# Altium footprint library PcbLibraryModelBoard.PcbLib: 17 footprints (part 1 of 2)
Each footprint in its own frame and in the unit in brackets; x right, y up, seen from the top. Pads: shape width x height; smd on the part's side, far side on the other; paste and mask are expansions set on the pad; w line width, h text height; cw(c..) or ccw(c..) is an arc to the next point about the centre after c.
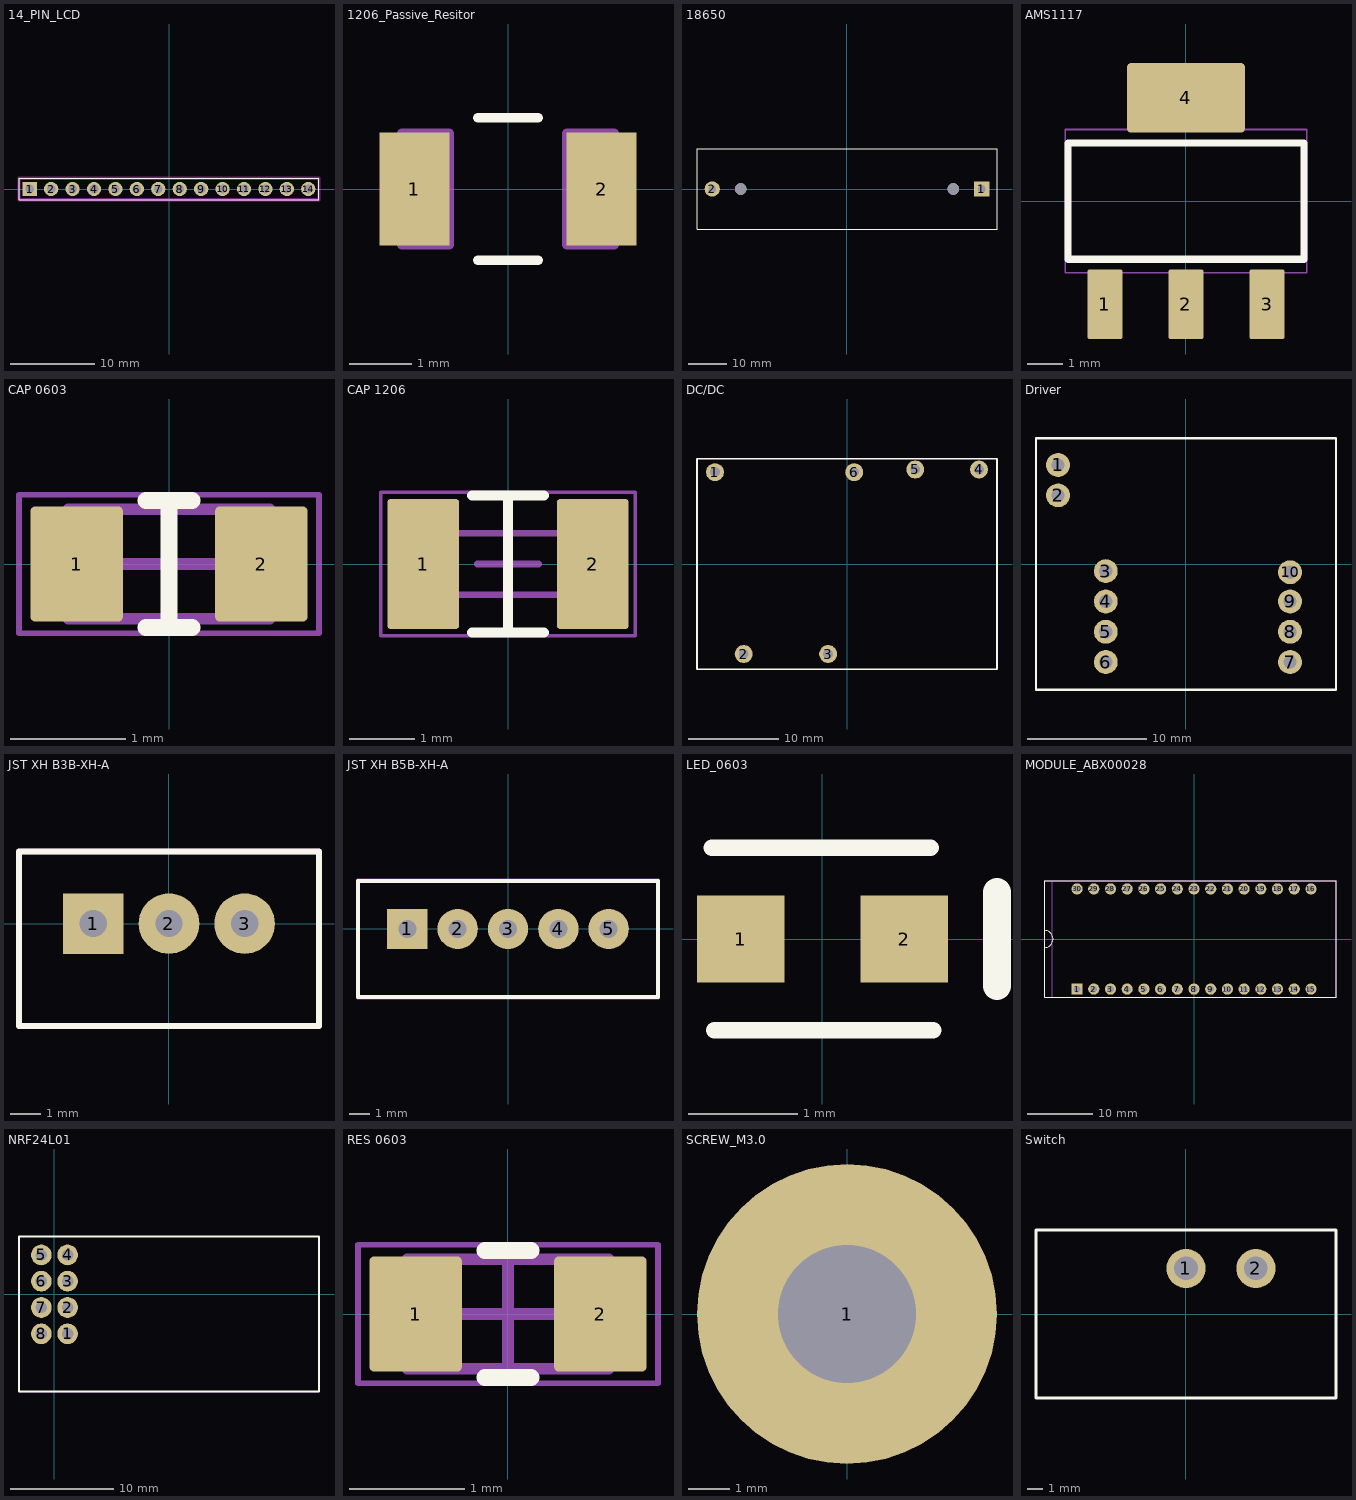
[diagram p0: the footprints below, top view; thin cyan lines are the x and y axes]

## 14_PIN_LCD [mm]
pads (14):
  rect 1.7x1.7 / inner round 1.7 / far side rect 1.7x1.7 hole 1.016: 1(-16.51,0)
  round 1.7 hole 1.016: 2(-13.97,0) 3(-11.43,0) 4(-8.89,0) 5(-6.35,0) 6(-3.81,0) 7(-1.27,0) 8(1.27,0) 9(3.81,0) 10(6.35,0) 11(8.89,0) 12(11.43,0) 13(13.97,0) 14(16.51,0)
Top Overlay:
  lines w0.127: -17.78,-1.27 17.78,-1.27 17.78,1.27 -17.78,1.27 -17.78,-1.27
Keep-Out Layer:
  lines w0.4: -17.78,-1.27 17.78,-1.27 17.78,1.27 -17.78,1.27 -17.78,-1.27
Mechanical 13:
  lines w0.127: -17.78,-1.27 17.78,-1.27 17.78,1.27 -17.78,1.27 -17.78,-1.27
Mechanical 15:
  lines w0.05: -17.78,-1.27 -17.78,1.27 17.78,1.27 17.78,-1.27 -17.78,-1.27

## 1206_Passive_Resitor [mil]
pads (2):
  rect 44x71 smd: 1(-59,0) 2(59,0)
Top Overlay:
  lines w6: -19,-44.88 19,-44.88 ; -19,44.88 19,44.88
Mechanical 4:
  lines w6: -67,-35 -67,35 ; -67,-35 -37,-35 ; -67,-35 -67,35 ; -67,-35 -37,-35 ; -67,35 -37,35 ; -67,35 -37,35 ; -37,-35 -37,35 ; -37,-35 -37,35 ; 37,-35 67,-35 ; 37,-35 37,35 ; 37,-35 67,-35 ; 37,-35 37,35 ; 37,35 67,35 ; 37,35 67,35 ; 67,-35 67,35 ; 67,-35 67,35
3D body "Res_1206.STEP": height 25.59, standoff 0, extent -61.02,-30.51 61.03,30.52

## 18650 [mm]
pads (4):
  rect 4x4 hole 2: 1(35,0)
  round 4 hole 2: 2(-35,0)
  round 3 hole 3 unplated: ""(-27.6,0) ""(27.6,0)
Top Overlay:
  lines w0.2: -38.95,-10.4 38.95,-10.4 38.95,10.4 -38.95,10.4 -38.95,-10.4

## AMS1117 [mm]
pads (4):
  rrect10% 0.99x1.97 smd: 1(-2.3,-2.93) 2(0,-2.93) 3(2.3,-2.93)
  rrect10% 3.34x1.97 smd: 4(0,2.93)
Top Overlay:
  lines w0.2: -3.35,-1.651 -3.35,1.651 3.35,1.651 3.35,-1.651 -3.35,-1.651
Mechanical 15:
  lines w0.05: -3.429,-2.032 -3.429,2.032 3.429,2.032 3.429,-2.032 -3.429,-2.032
Mechanical 20:
  lines w0.05: -3.429,-2.032 -3.429,2.032 3.429,2.032 3.429,-2.032 -3.429,-2.032

## CAP 0603 [mm] "Chip Resistor, 2-Leads, Body 1.60x0.80mm"
height 0.45
pads (2):
  rrect10% 0.8x1 smd: 1(-0.8,0) 2(0.8,0)
Top Overlay:
  lines w0.15: -0.2,-0.55 0.2,-0.55 ; -0.2,0.55 0.2,0.55 ; 0,-0.55 0,0.55
Mechanical 13:
  lines w0.1: -0.875,-0.475 0.875,-0.475 0.875,0.475 -0.875,0.475 -0.875,-0.475
Mechanical 15:
  lines w0.05: -1.3,-0.6 1.3,-0.6 1.3,0.6 -1.3,0.6 -1.3,-0.6
  lines w0.1: -0.475,0 0.475,0 ; 0,-0.475 0,0.475
3D body "0603 resistor.STEP": height 0.45, standoff 0, extent -0.8,-0.4 0.8,0.4

## CAP 1206 [mm] "Chip Resistor, 2-Leads, Body 1.60x0.80mm"
height 0.45
pads (2):
  rrect10% 1.1x2 smd: 1(-1.3,0) 2(1.3,0)
Top Overlay:
  lines w0.15: -0.55,-1.05 0.55,-1.05 ; -0.55,1.05 0.55,1.05 ; 0,-1.05 0,1
Mechanical 13:
  lines w0.1: -0.875,-0.475 -0.875,0.475 0.875,0.475 0.875,-0.475 -0.875,-0.475
Mechanical 15:
  lines w0.05: -1.95,-1.1 -1.95,1.1 1.95,1.1 1.95,-1.1 -1.95,-1.1
  lines w0.1: -0.475,0 0.475,0 ; 0,-0.475 0,0.475
Mechanical 20:
  lines w0.05: -1.95,-1.1 1.95,-1.1 1.95,1.1 -1.95,1.1 -1.95,-1.1
3D body "0603 resistor.STEP": height 0.45, standoff 0, extent -0.8,-0.4 0.8,0.4

## DC/DC [mm]
pads (6):
  round 2 hole 1.1: 1(-14.7,10.225) 2(-11.5,-10.025) 3(-2.1,-10.025) 4(14.7,10.525) 5(7.6,10.525) 6(0.8,10.225)
Top Overlay:
  lines w0.2: -16.7,-11.725 16.7,-11.725 16.7,11.725 -16.7,11.725 -16.7,-11.725

## Driver [mm]
pads (10):
  round 2 hole 1.1: 1(-10.725,8.3) 2(-10.725,5.76) 3(-6.725,-0.6) 4(-6.725,-3.14) 5(-6.725,-5.68) 6(-6.725,-8.22) 7(8.725,-8.22) 8(8.725,-5.68) 9(8.725,-3.14) 10(8.725,-0.69)
Top Overlay:
  lines w0.2: -12.575,-10.55 -12.575,10.55 12.575,10.55 12.575,-10.55 -12.575,-10.55
Mechanical 15:
  lines w0.05: -12.575,-10.541 -12.575,10.55 ; -12.575,-10.541 12.573,-10.541 ; -12.575,-10.541 -12.575,10.55 ; -12.575,-10.541 12.573,-10.541 ; -12.575,10.55 12.573,10.55 ; -12.575,10.55 12.573,10.55 ; 12.573,-10.541 12.573,10.55 ; 12.573,-10.541 12.573,10.55
Mechanical 20:
  lines w0.05: -12.575,-10.541 -12.575,10.55 12.573,10.55 12.573,-10.541 -12.575,-10.541

## JST XH B3B-XH-A [mm]
height 7
pads (3):
  rect 2x2 hole 0.9: 1(-2.5,0)
  round 2 hole 0.9: 2(0,0) 3(2.5,0)
Top Overlay:
  lines w0.2: -4.95,-3.375 -4.95,2.375 4.95,2.375 4.95,-3.375 -4.95,-3.375
Mechanical 1:
  lines w0.2: -4.95,-3.375 4.95,-3.375 4.95,2.375 -4.95,2.375 -4.95,-3.375
Mechanical 15:
  lines w0.05: -4.953,-3.429 -4.953,2.413 4.953,2.413 4.953,-3.429 -4.953,-3.429
  lines w0.2: -0.5,0 0.5,0 ; 0,-0.5 0,0.5
Mechanical 20:
  lines w0.05: -4.953,-3.429 4.953,-3.429 4.953,2.413 -4.953,2.413 -4.953,-3.429
3D body "JST B3B-XH-A.STEP": height 7, standoff -3.4, extent -4.95,-3.375 4.95,2.375

## JST XH B5B-XH-A [mm]
height 7
pads (5):
  rect 2x2 hole 0.9: 1(-5,0)
  round 2 hole 0.9: 2(-2.5,0) 3(0,0) 4(2.5,0) 5(5,0)
Top Overlay:
  lines w0.2: -7.45,-3.375 7.45,-3.375 7.45,2.375 -7.45,2.375 -7.45,-3.375
Mechanical 1:
  lines w0.2: -7.45,-3.375 -7.45,2.375 7.45,2.375 7.45,-3.375 -7.45,-3.375
Mechanical 15:
  lines w0.2: -0.5,0 0.5,0 ; 0,-0.5 0,0.5 ; -7.45,-3.4 7.45,-3.4 7.45,2.4 -7.45,2.4 -7.45,-3.4
3D body "JST B5B-XH-A.STEP": height 7, standoff -3.4, extent -7.45,-3.375 7.45,2.375

## LED_0603 [mm]
pads (2):
  rect 0.8x0.8 smd: 1(-0.75,0) 2(0.75,0)
Top Overlay:
  lines w0.152: -1.016,0.838 0.991,0.838 ; -0.991,-0.838 1.016,-0.838
  lines w0.254: 1.6,-0.432 1.6,0.432
3D body "LED_0603.STEP": height 0.55, standoff 0, extent -0.837,-0.406 0.763,0.394

## MODULE_ABX00028 [mm]
pads (30):
  rect 1.7x1.7 / inner round 1.7 / far side rect 1.7x1.7 hole 1.016: 1(-17.78,-7.62)
  round 1.7 hole 1.016: 2(-15.24,-7.62) 3(-12.7,-7.62) 4(-10.16,-7.62) 5(-7.62,-7.62) 6(-5.08,-7.62) 7(-2.54,-7.62) 8(0,-7.62) 9(2.54,-7.62) 10(5.08,-7.62) 11(7.62,-7.62) 12(10.16,-7.62) 13(12.7,-7.62) 14(15.24,-7.62) 15(17.78,-7.62) 16(17.78,7.62) 17(15.24,7.62) 18(12.7,7.62) 19(10.16,7.62) 20(7.62,7.62) 21(5.08,7.62) 22(2.54,7.62) 23(0,7.62) 24(-2.54,7.62) 25(-5.08,7.62) 26(-7.62,7.62) 27(-10.16,7.62) 28(-12.7,7.62) 29(-15.24,7.62) 30(-17.78,7.62)
Top Overlay:
  lines w0.127: -22.733,-1.295 ccw(c-22.733,0) -22.733,1.295 ; -22.733,-8.89 21.59,-8.89 21.59,8.89 -22.733,8.89 -22.733,-8.89
Mechanical 13:
  lines w0.127: -21.59,-8.89 21.59,-8.89 21.59,8.89 -21.59,8.89 -21.59,-8.89
Mechanical 15:
  lines w0.05: -22.733,-8.89 -22.733,8.89 21.59,8.89 21.59,-8.89 -22.733,-8.89
3D body "step_temp.STEP": height 6, standoff -6, extent -22.74,-8.89 21.59,8.89

## NRF24L01 [mm]
pads (8):
  round 2 hole 1.1: 1(1.27,-3.81) 2(1.27,-1.27) 3(1.27,1.27) 4(1.27,3.81) 5(-1.27,3.81) 6(-1.27,1.27) 7(-1.27,-1.27) 8(-1.27,-3.81)
Top Overlay:
  lines w0.2: -3.429,-9.398 -3.429,5.602 25.571,5.602 25.571,-9.398 -3.429,-9.398
Mechanical 15:
  lines w0.05: -3.429,-9.398 -3.429,5.602 25.527,5.602 25.527,-9.398 -3.429,-9.398
Mechanical 20:
  lines w0.05: -3.429,-9.398 -3.429,5.602 25.527,5.602 25.527,-9.398 -3.429,-9.398

## RES 0603 [mm] "Chip Resistor, 2-Leads, Body 1.60x0.80mm"
height 0.45
pads (2):
  rrect10% 0.8x1 smd: 1(-0.8,0) 2(0.8,0)
Top Overlay:
  lines w0.15: -0.2,-0.55 0.2,-0.55 ; -0.2,0.55 0.2,0.55
Top Courtyard:
  lines w0.05: -1.3,-0.6 -1.3,0.6 1.3,0.6 1.3,-0.6 -1.3,-0.6
Mechanical 13:
  lines w0.1: -0.875,-0.475 -0.875,0.475 0.875,0.475 0.875,-0.475 -0.875,-0.475
Mechanical 15:
  lines w0.1: -0.475,0 0.475,0 ; 0,-0.475 0,0.475
Mechanical 20:
  lines w0.05: -1.3,-0.6 -1.3,0.6 1.3,0.6 1.3,-0.6 -1.3,-0.6
3D body "0603 resistor.STEP": height 0.45, standoff 0, extent -0.8,-0.4 0.8,0.4

## SCREW_M3.0 [mm] "M3 Screw Close FIt"
pads (1):
  round 7.2 hole 3.301: 1(0,0)

## Switch [mm]
pads (2):
  round 2.5 hole 1.5: 1(0,2.9) 2(4.45,2.9)
Top Overlay:
  lines w0.2: -9.55,-5.35 -9.55,5.35 9.55,5.35 9.55,-5.35 -9.55,-5.35
Mechanical 15:
  lines w0.05: -9.55,-5.35 -9.55,5.35 9.55,5.35 9.55,-5.35 -9.55,-5.35
Mechanical 20:
  lines w0.05: -9.55,-5.35 -9.55,5.35 9.55,5.35 9.55,-5.35 -9.55,-5.35